# Altium footprint library VR10S05.PcbLib: 1 footprints
Each footprint in its own frame and in the unit in brackets; x right, y up, seen from the top. Pads: shape width x height; smd on the part's side, far side on the other; paste and mask are expansions set on the pad; w line width, h text height; cw(c..) or ccw(c..) is an arc to the next point about the centre after c.
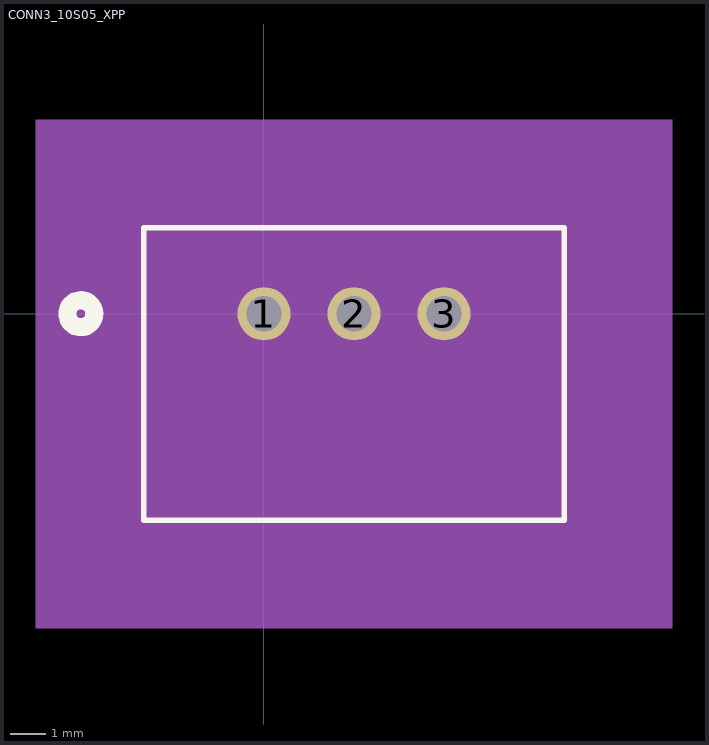
[diagram p0: the footprint, top view; thin cyan lines are the x and y axes]

## CONN3_10S05_XPP [mil]
pads (3):
  round 59 hole 39 mask+0: 1(0,0) 2(100,0) 3(200,0)
Top Overlay:
  circle w20: c-203.5,0 r15
  lines w6: -133.5,-229.45 333.5,-229.45 333.5,95.55 -133.5,95.55 -133.5,-229.45
Bottom Overlay:
  circle w20: c-203.5,0 r15
Mechanical 5:
  region: -253.5,215.55 453.5,215.55 453.5,-349.45 -253.5,-349.45
Mechanical 13:
  circle w20: c0,75 r15
  lines w1: -128.5,-224.45 328.5,-224.45 328.5,90.55 -128.5,90.55 -128.5,-224.45
Mechanical 15:
  region: 338.5,100.55 -138.5,100.55 -138.5,-234.45 338.5,-234.45
  lines w6: -138.5,-234.45 -138.5,100.55 338.5,100.55 338.5,-234.45 -138.5,-234.45
3D body: height 10, standoff 0, extent 0,0 10,10